# EAGLE library part AD5243 (library logic-supply)
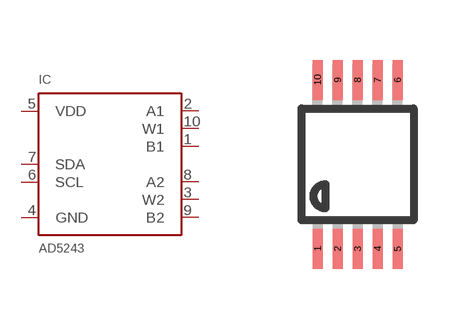
[diagram p40: symbol with the pads of MSOP10; footprint MSOP10]

Designator prefix IC

## AD5243  [MSOP10]
1  B1
2  A1
3  W2
4  GND
5  VDD
6  SCL
7  SDA
8  A2
9  B2
10  W1

## Footprint MSOP10 (pad centres in mm)
10 pin MSOP package from analog-devices.lbr
smd 0.25 x 1: 1 -1,-2.113; 2 -0.5,-2.113; 3 0,-2.113; 4 0.5,-2.113; 5 1,-2.113; 6 1,2.113; 7 0.5,2.113; 8 0,2.113; 9 -0.5,2.113; 10 -1,2.113